# EAGLE library part BM11B-SRSS-TB (library JST)
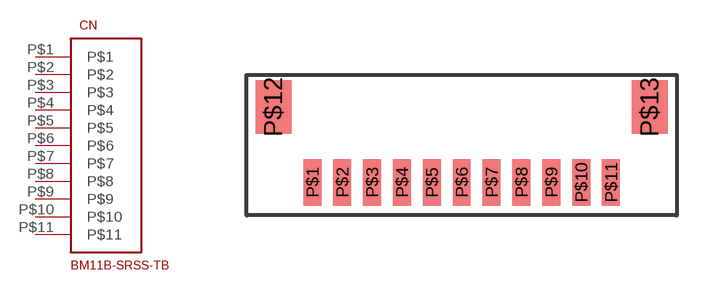
[diagram p0: symbol with the pads of BM11B-SRSS-TB; footprint BM11B-SRSS-TB]

Designator prefix CN

## BM11B-SRSS-TB  [BM11B-SRSS-TB]
P$1  P$1
P$2  P$2
P$3  P$3
P$4  P$4
P$5  P$5
P$6  P$6
P$7  P$7
P$8  P$8
P$9  P$9
P$10  P$10
P$11  P$11

## Footprint BM11B-SRSS-TB (pad centres in mm)
smd 0.6 x 1.55: P$1 -5,0; P$2 -4,0; P$3 -3,0; P$4 -2,0; P$5 -1,0; P$6 0,0; P$7 1,0; P$8 2,0; P$9 3,0; P$10 4,0; P$11 5,0
smd 1.2 x 1.8: P$12 -6.3,2.525; P$13 6.3,2.525